# Altium schematic symbol library MM3Z3V0ST1G.SchLib: 1 symbol
Pins are listed as number, name and electrical type; pins without a type are passive.

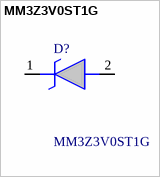
[diagram p0: symbol MM3Z3V0ST1G]

## MM3Z3V0ST1G
designator D?
Standard Zener Breakdown Voltage Range - 2.4 V to 75 V; Steady State Power Rating of 300 mW; ESD Rating of Class 3 (>16 KV) per Human Body Model Mechanical Characteristics:; Tight Tolerance ; MAXIMUM CASE TEMPERATURE FOR SOLDERING PURPOSES: 260?C for 10 Seconds; FLAMMABILITY RATING: UL94 V-0; These Devices are PbFree, Halogen Free/BFR Free and are RoHS Compliant; AEC-Q101 Qualified and PPAP Capable ; SZ Prefix for Automotive and Other Applications Requiring Unique Site and Control Change Requirements; Manufacturer_Name: onsemi; Geometry.Height: 1mm; Mouser Part Number: 863-MM3Z3V0ST1G; Mouser Price/Stock: https://www.mouser.co.uk/ProductDetail/onsemi/MM3Z3V0ST1G?qs=ZbcYFwcEkbcQGEmg6wDNLA%3D%3D; Manufacturer_Part_Number: MM3Z3V0ST1G; Datasheet Link: https://www.onsemi.com/pub/Collateral/MM3Z2V4ST1-D.PDF
footprint SOD2512X100N
pins: 1 K, 2 A